# Altium schematic symbol library Reboostv2.SCHLIB: 31 symbols
Pins are listed as number, name and electrical type; pins without a type are passive.

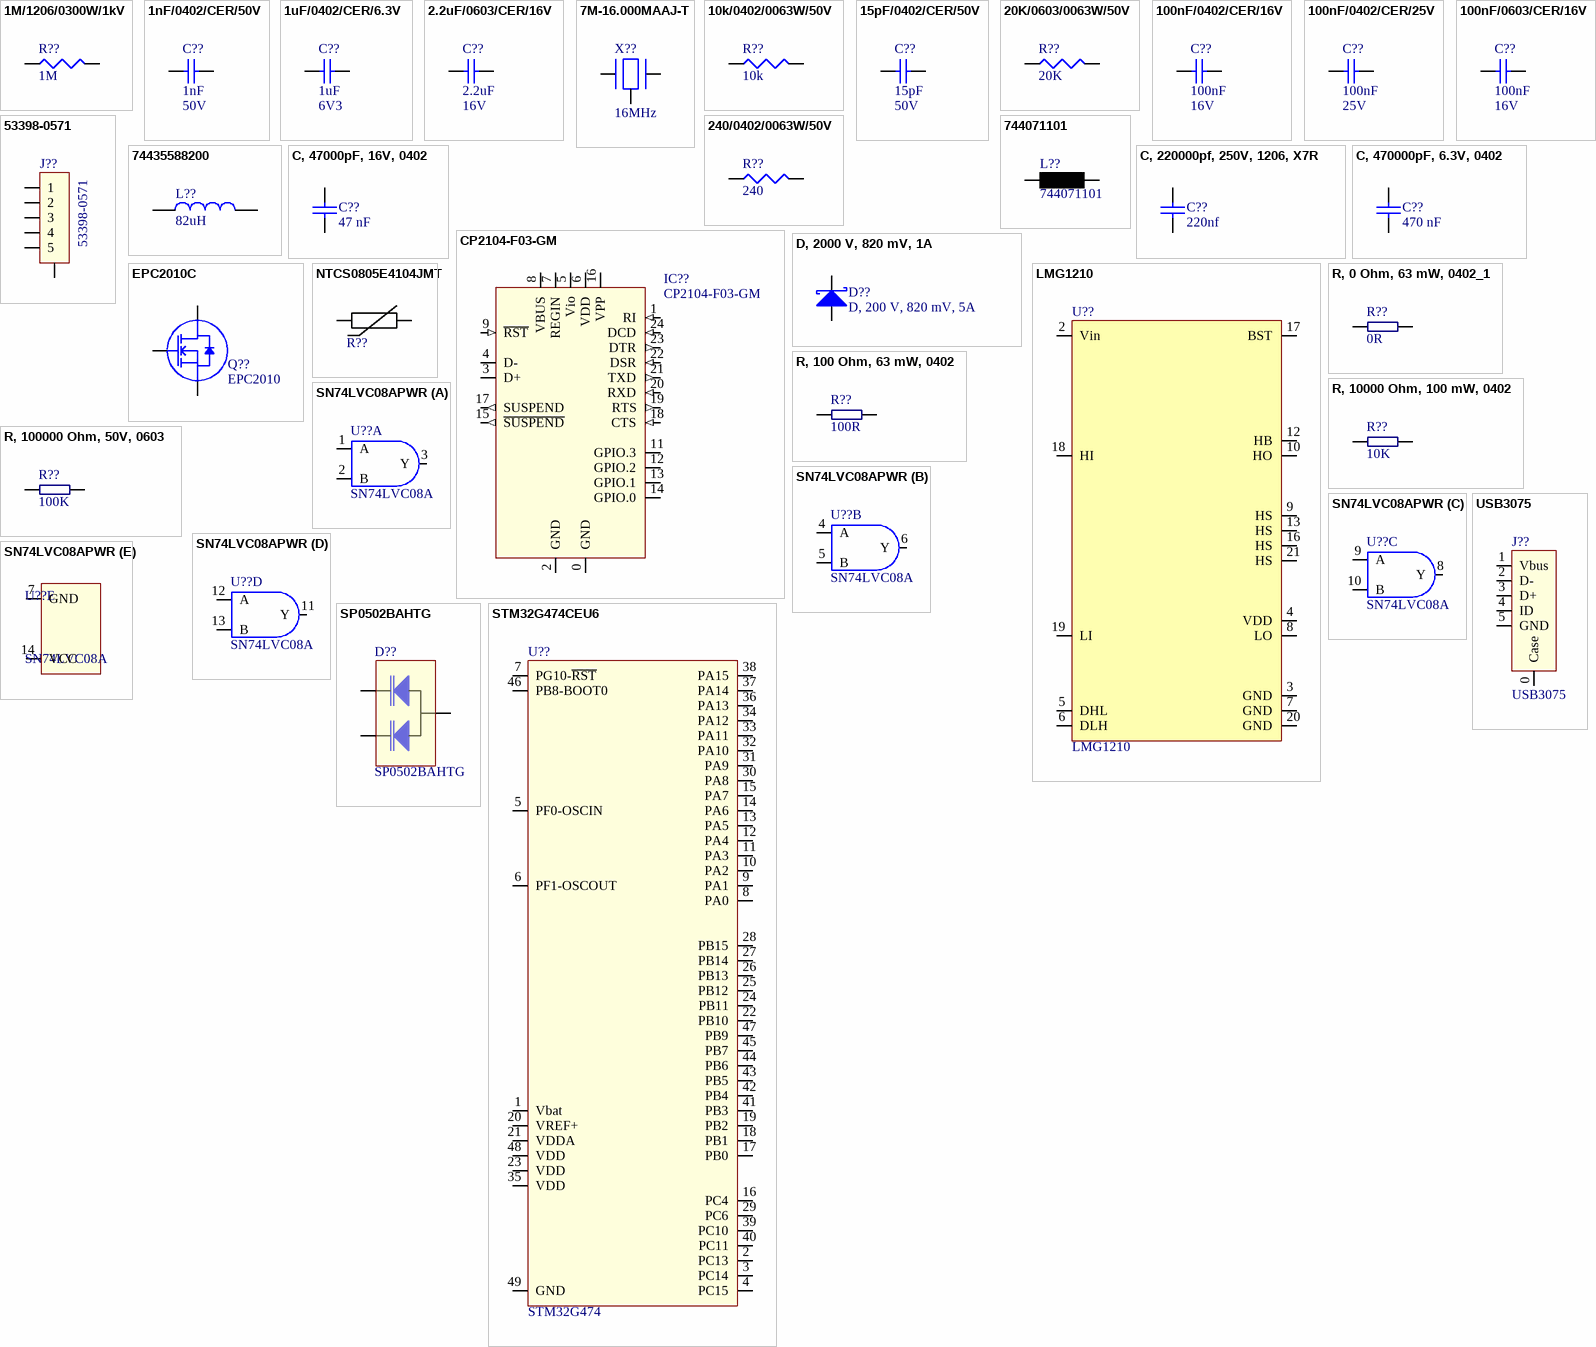
[diagram p0: symbols 1M/1206/0300W/1kV to USB3075]

## 1M/1206/0300W/1kV
designator R??, comment 1M
Resistor, 1M, 1%, 0.25W, 1kV, 200PPM, 1206; Brand: WELWYN; Brand Number: HVC1206-1M0FT3; Case Style: 1206; Power Rating: 0.3W; Temperature Coefficient: ± 100PPM; Order Code Supplier: 2340649; Price: 1,44; Resistance: 1M; Supplier: Farnell; Temperature Range: -55°C to +155°C; Voltage Rating: 1kV
footprint 1206
pins: 1, 2

## 1nF/0402/CER/50V
designator C??, comment 1nF  Voltage Rating: 50V
Capacitor, 1nF, 50V, X7R; Capacitance Tolerance: ± 10%; Capacitor Case Style: 0402; Brand Number: GRM155R71H102KA01D; Brand: MURATA; Dielectric Characteristic: X7R; Capacitance: 1nF; Temperature Range: -55°C to Max: 125°C; Price: 0,0146; Order Code Supplier: 1828882; Supplier: Farnell
footprint C0402
pins: 1, 2

## 1uF/0402/CER/6.3V
designator C??, comment 1uF  Voltage Rating: 6V3
Capacitor, 1uF, 6.3V, X5R; Capacitance Tolerance: ± 10%; Capacitor Case Style: 0402; Brand Number: 04026D105KAT2A; Brand: AVX; Dielectric Characteristic: X5R; Capacitance: 1uF; Temperature Range: -55°C to +85°C; Price: 0,0874; Order Code Supplier: 1327658; Supplier: Farnell
footprint C0402
pins: 1, 2

## 2.2uF/0603/CER/16V
designator C??, comment 2.2uF  Voltage Rating: 16V
Capacitor, 2.2uF, 16V, X5R; Capacitance Tolerance: +/- 10%; Capacitor Case Style: 0603; Brand Number: GRM188R61C225KE15D; Brand: MURATA; Dielectric Characteristic: X5R; Capacitance: 2.2uF; Temperature Range: -55°C to 85°C; Price: 0,077; Order Code Supplier: 1735526; Supplier: Farnell
footprint C0603
pins: 1, 2

## 7M-16.000MAAJ-T
designator X??, comment 16MHz
CRYSTAL, 16MHz,18PF CL, 3.2X2.5MM SMT; Brand Number: 7M-16.000MAAJ-T; Brand: TXC; Order Code Supplier: 1842060; Price: 1,45; Supplier: Farnell
footprint 7M
pins: 0 (power), 1, 2

## 10k/0402/0063W/50V
designator R??, comment 10k
Resistor, 10k, 0.1%, 0.0625W, 50V, 100PPM, 0402; Brand: VISHAY DRALORIC; Brand Number: CRCW040210K0FKED; Case Style: 0402; Power Rating: 0.063W; Order Code Supplier: 2121730; Price: 0,0005; Resistance: 10k; Supplier: Farnell; Temperature Coefficient: ± 100PPM; Temperature Range: -55°C to +125°C; Voltage Rating: 50V
footprint 0402
pins: 1, 2

## 15pF/0402/CER/50V
designator C??, comment 15pF  Voltage Rating: 50V
Capacitor, 15pF, 50V, C0G; Capacitance Tolerance: ± 5%; Capacitor Case Style: 0402; Brand Number: GRM1555C1H150JA01D; Brand: Murata; Dielectric Characteristic: C0G; Capacitance: 15pF; Temperature Range: -55°C to 125°C; Price: 0,0097; Order Code Supplier: 2218840; Supplier: Farnell
footprint C0402
pins: 1, 2

## 20K/0603/0063W/50V
designator R??, comment 20K
Resistor, 20K, 1%, 0.063W, 50V, 100PPM, 0603; Brand: VISHAY DRALORIC; Brand Number: CRCW060320K0FKEA; Case Style: 0603; Order Code Supplier: 2122528; Power Rating: 0.063W; Price: 0,038; Resistance: 20K; Supplier: Farnell; Temperature Coefficient: ± 100PPM; Temperature Range: -55°C to +125°C; Voltage Rating: 50V
footprint 0603
pins: 1, 2

## 100nF/0402/CER/16V
designator C??, comment 100nF  Voltage Rating: 16V
Capacitor, 100nF, 16V, X7R; Capacitance Tolerance: 10nF; Capacitor Case Style: 0402; Brand Number: GRM155R71C104KA88D; Brand: MURATA; Dielectric Characteristic: X7R; Capacitance: 100nF; Temperature Range: -55 to +125 C; Price: 0,001; Order Code Supplier: 2408523; Supplier: Farnell
footprint C0402
pins: 1, 2

## 100nF/0402/CER/25V
designator C??, comment 100nF  Voltage Rating: 25V
Capacitor, 100nF, 25V, X7R; Capacitance Tolerance: 10nF; Capacitor Case Style: 0402; Brand Number: GRM155R71E104KE14D; Brand: MULTICOMP; Dielectric Characteristic: X7R; Capacitance: 100nF; Temperature Range: -55 to +125 C; Price: 0,0225; Order Code Supplier: 2456106; Supplier: Farnell
footprint C0402
pins: 1, 2

## 100nF/0603/CER/16V
designator C??, comment 100nF  Voltage Rating: 16V
Capacitor, 100nF, 16V, X7R; Capacitance Tolerance: ± 10%; Capacitor Case Style: 0603; Brand Number: MC0603B104K160CT; Brand: MULTICOMP; Dielectric Characteristic: X7R; Capacitance: 100nF; Temperature Range: -55°C to +125°C; Price: 0,01; Order Code Supplier: 1759016; Supplier: Farnell
footprint C0603
pins: 1, 2

## 240/0402/0063W/50V
designator R??, comment 240
Resistor, 240, 0.1%, 0.0625W, 50V, 100PPM, 0402; Brand: VISHAY DRALORIC; Brand Number: CRCW0402240RFKED; Case Style: 0402; Power Rating: 0.063W; Order Code Supplier: 2121522; Price: 0,0006; Resistance: 240; Supplier: Farnell; Temperature Coefficient: ± 100PPM; Temperature Range: -55°C to +125°C; Voltage Rating: 50V
footprint 0402
pins: 1, 2

## 53398-0571
designator J??
PicoBlade 53398 Series, 5Pin, Right Angle; Brand: MOLEX; Pitch: 1.25mm; Brand Number: 53398-0571; Case Style: 53398-0571; Order Code Supplier: 1125354; Price: 1,55; Supplier: Farnell
footprint 53398-0571
pins: 0 SHLD, 1, 2, 3, 4, 5

## 744071101
designator L??
Ferrite, 0.32R, 1Adc; Brand: Wurth; Case Style: 8043; DC Current: 1A; Inductance: 100uH; DC Resistance: 0.32Ohm; Brand Number: 744071101; Order Code Supplier: 2114327; Price: 1,90; Q Factor: *; Supplier: Farnell; Temperature Range: -40°C to +125°C
footprint WE-TPC 8043 (SMD Inductor, 2-Leads, Body 8x8mm)
pins: 1, 2

## 74435588200
designator L??  value 82uH  (hidden comment: 74435588200)
WE-HCI SMD Flat Wire High Current Inductor, size 2212, 7A, 82uH; Material: MnZn; ComponentLink1Description: Manufacturer; ComponentLink1URL: http://www.we-online.de; ComponentLink2Description: Datasheet; ComponentLink2URL: http://katalog.we-online.de/pbs/datasheet/74435588200.pdf; Part Number: 74435588200; Published Date: July 2017; Publisher: Wurth Elektronik; Rated Current: 7A; Size: 2212
footprint WE-HCI_2212_MnZn
pins: 1, 2

## C, 47000pF, 16V, 0402
designator C??, comment 47 nF
Capacitor, 47nF, 16V, 0402,  X7R; Capacitor Case Style: 0402; Capacitance: 47 nF
footprint C-0402
pins: 1, 2

## C, 220000pf, 250V, 1206, X7R
designator C??, comment 220nf
Capacitor, 0.22uF, 250V, 1206  X7R; Capacitance Tolerance: ± 10%; Capacitor Case Style: 1206; Brand Number: GRM31CR61H106KA12L; Brand: MURATA; Dielectric Characteristic: X7R; Capacitance: 220nf; Temperature Range: -55°C to +125°C; Price: 0,461; Order Code Supplier: 2906849; Supplier: farnell; Voltage Rating: 250V
footprint C-1206
pins: 1, 2

## C, 470000pF, 6.3V, 0402
designator C??, comment 470 nF
Capacitor, 470nF, 6.3V, 0402,  X7R; Capacitance Tolerance: 20%; Capacitor Case Style: 0402; Brand Number: 885012105004; Brand: Wurth; Dielectric Characteristic: X7R; Capacitance: 470 nF; Price: 0.0832; Order Code Supplier: 2533924; Supplier: Farnell; Voltage Rating: 6.3V
footprint C-0402
pins: 1, 2

## CP2104-F03-GM
designator IC??
USB to UART converter; Case Style: QFN24; Brand: Silicon Labs; Price: 1,65; Order Code Supplier: 757-4983; Brand Number: CP2104-F03-GM; Supplier: RS-Components
footprint QFN24
pins: 0 GND (power), 1 RI (in), 2 GND (power), 3 D+ (io), 4 D- (io), 5 Vio, 6 VDD (power), 7 REGIN (power), 8 VBUS (power), 9 ~{RST} (in), 11 GPIO.3, 12 GPIO.2, 13 GPIO.1, 14 GPIO.0, 15 ~{SUSPEND} (out), 16 VPP (power), 17 SUSPEND (out), 18 CTS (in), 19 RTS (out), 20 RXD (in), 21 TXD (out), 22 DSR (in), 23 DTR (out), 24 DCD (in)

## D, 2000 V, 820 mV, 1A
designator D??, comment D, 200 V, 820 mV, 5A
Diode Schottky, Vrrm: 200V, If: 1A, Vf: 0.82V; Brand: DIODES INC.; Brand Number: SBR1U200P1-7; Case Style: DO-214AB; Forward Current: 1A; Forward Voltage: 0.82V; Order Code Supplier: 2543581; Price: 0.335; Supplier: Farnell; Temperature Range: -55°C to +125°C; Vrrm: 200V
footprint PowerDI123
pins: 1 K, 2 A

## EPC2010C
designator Q??, comment EPC2010
200V 12A 25mE; PCBfootprint: EPC2x200L; MFG: EPC; Config: *; Supplier 1: Digi-Key; Supplier 2: Digi-Key; Supplier 3: Digi-Key; Supplier Part Number 1: 917-1085-6-ND; Supplier Part Number 2: 917-1085-1-ND; Supplier Part Number 3: 917-1085-2-ND; Value: 200V 12A 25mE; MFGPN: EPC2010
footprint EPC2x200L
pins: 1 G, 2 Sub (oe), 3 D1 (oc), 4 S1 (oe), 5 D2 (oc), 6 S2 (oe), 7 D3 (oc)

## LMG1210
designator U??
Parameter 1: TI
footprint QFN19 (custom QFN package for the LMG1210)
pins: 2 Vin, 3 GND, 4 VDD, 5 DHL, 6 DLH, 7 GND, 8 LO, 9 HS, 10 HO, 12 HB, 13 HS, 16 HS, 17 BST, 18 HI, 19 LI, 20 GND, 21 HS

## NTCS0805E4104JMT
designator R??  (value not drawn)
THERMISTOR, NTC, 100K, 5%; Case Style: 0805; Brand: VISHAY; Supplier: Farnell; Price: 0,65; Order Code Supplier: 1187095; Brand Number: NTCS0805E4104JMT
footprint R0805
pins: 1, 2

## R, 0 Ohm, 63 mW, 0402_1
designator R??, comment 0R
Resistor, 0R, 50V, 0,063W, 1%, 0402; Brand: YAGEO (PHYCOMP); Brand Number: RC0402FR-07100RL; Resistance: 0R; Supplier: farnell; Price: 0,0089; Order Code Supplier: 2059190; Temperature Range: -55°C to +125°C; Voltage Rating: 50 V
footprint R-0402
pins: 1, 2

## R, 100 Ohm, 63 mW, 0402
designator R??, comment 100R
Resistor, 100R, 50V, 0,063W, 1%, 0402; Brand: YAGEO (PHYCOMP); Brand Number: RC0402FR-07100RL; Resistance: 100R; Supplier: farnell; Price: 0,0089; Order Code Supplier: 9239111; Temperature Range: -55°C to +125°C; Voltage Rating: 50 V
footprint R-0402
pins: 1, 2

## R, 10000 Ohm, 100 mW, 0402
designator R??, comment 10K
Resistor, 10K, 75V, 0,1W, 1%, 0402; Resistance: 10K
footprint R-0402
pins: 1, 2

## R, 100000 Ohm, 50V, 0603
designator R??, comment 100K
Resistor, 100K, 1%, 0.63W, 50V, 100PPM, 0603; Brand: MULTICOMP; Brand Number: MC0063W06031100K; Case Style: 0603; Power Rating: 0.1W; Order Code Supplier: 9330402; Price: 0.0012; Resistance: 100K; Supplier: Farnell; Temperature Coefficient: 100 ppm; Temperature Range: -55°C to +155°C; Voltage Rating: 50V
footprint 0603
pins: 1, 2

## SN74LVC08APWR
designator U??, comment SN74LVC08A
SN74LVC08APWR -  AND Gate, 74LVC08, 2 Input, 24 mA, 1.65 V to 3.6 V, TSSOP-14; Brand: Texas instruments; Order Code Supplier: 1102978; Supplier: Farnell; Price: 0.303
footprint TTSOP14 (TSOP, 14-Leads, Body 5.00x4.40mm, Pitch 0.65mm, IPC Medium Density)
part A pins: 1 A, 2 B, 3 Y
part B pins: 4 A, 5 B, 6 Y
part C pins: 8 Y, 9 A, 10 B
part D pins: 11 Y, 12 A, 13 B
part E pins: 7 GND, 14 VCC

## SP0502BAHTG
designator D??
Diode TVS Dual, Vrwm: 5.5V Vc: 8V; Brand: LITTLEFUSE; Case Style: SOT-23; Brand Number: SP0502BAHTG; Clamping Voltage: 8V; Order Code Supplier: 1827631; Price: 0,80; Supplier: Farnell; Temperature Range: -40°C to +125°C; Vrwm: 5.5V
footprint SOT23
pins: A, K1, K2

## STM32G474CEU6
designator U??, comment STM32G474
ARM MCU, STM32 Family STM32G4 Series Microcontrollers, ARM Cortex-M4F, 32bit, 170 MHz, 512 KB; Supplier 1: Digi-Key; Supplier 2: Farnell; Supplier Part Number 1: 497-STM32G474CEU6-ND; Supplier Part Number 2: 3132392
footprint UFQFN48 (QFN, 48-Leads, Body 6,95x6,95mm, Pitch 0,50mm, Thermal Pad 5,60x5,60mm, IPC Low Density)
pins: 1 Vbat, 2 PC13, 3 PC14, 4 PC15, 5 PF0-OSCIN, 6 PF1-OSCOUT, 7 PG10-~{RST}, 8 PA0, 9 PA1, 10 PA2, 11 PA3, 12 PA4, 13 PA5, 14 PA6, 15 PA7, 16 PC4, 17 PB0, 18 PB1, 19 PB2, 20 VREF+, 21 VDDA, 22 PB10, 23 VDD, 24 PB11, 25 PB12, 26 PB13, 27 PB14, 28 PB15, 29 PC6, 30 PA8, 31 PA9, 32 PA10, 33 PA11, 34 PA12, 35 VDD, 36 PA13, 37 PA14, 38 PA15, 39 PC10, 40 PC11, 41 PB3, 42 PB4, 43 PB5, 44 PB6, 45 PB7, 46 PB8-BOOT0, 47 PB9, 48 VDD, 49 GND

## USB3075
designator J??
USB 2.0 MICRO B, RCPT, 5POS, SMT; Brand: Global Connector Technology; Brand Number: USB3075-30-A; Case Style: Micro B SMT; Pitch: 0.8mm; Order Code Supplier: 2443116; Price: 0,313; Supplier: Farnell
footprint USB3075
footprint USB3075 - NOSLOT
pins: 0 Case, 1 Vbus, 2 D-, 3 D+, 4 ID, 5 GND